# Altium footprint library PCB - CAPACITOR - ELECTROLYTIC - CAPAE660X610N.PCBLIB: 1 footprints
Each footprint in its own frame and in the unit in brackets; x right, y up, seen from the top. Pads: shape width x height; smd on the part's side, far side on the other; paste and mask are expansions set on the pad; w line width, h text height; cw(c..) or ccw(c..) is an arc to the next point about the centre after c.
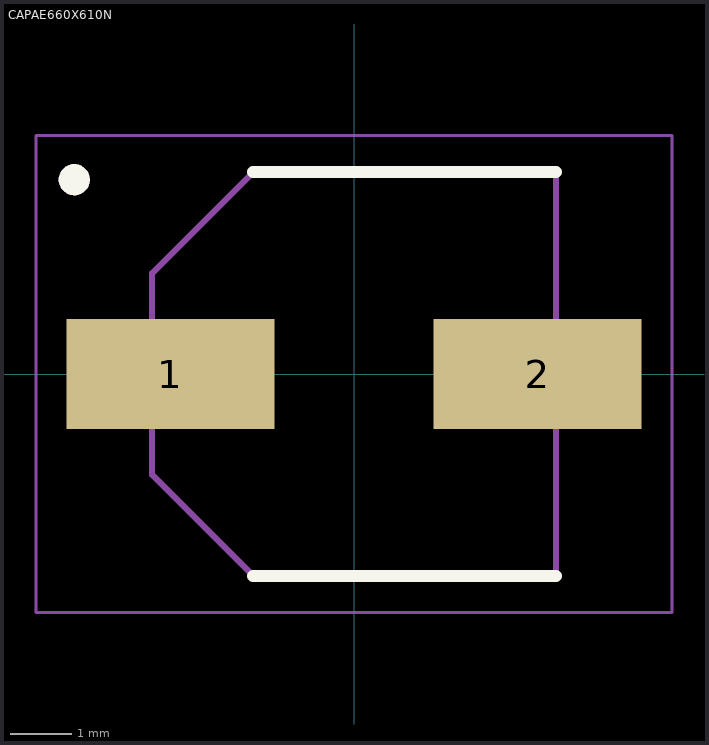
[diagram p0: the footprint, top view; thin cyan lines are the x and y axes]

## CAPAE660X610N [mm]
pads (2):
  rect 3.4x1.8 smd: 1(-3,0) 2(3,0)
Top Overlay:
  circle w0.254: c-4.572,3.175 r0.127
  lines w0.2: -1.651,3.302 3.3,3.3 ; -1.65,-3.3 3.3,-3.3
Top Assembly:
  lines w0.1: -3.3,-1.65 -3.3,1.65 -1.65,3.3 3.3,3.3 3.3,-3.3 -1.65,-3.3 -3.3,-1.65
Top Courtyard:
  lines w0.05: -5.2,-3.9 -5.2,3.9 5.2,3.9 5.2,-3.9 -5.2,-3.9
Top Designator:
  circle w0.254: c-4.572,3.175 r0.127
  text ".Designator" at -5.207,5.461 h1
Top Value (Mech13):
  text ".Comment" at -5.207,4.445 h1
3D body "EEEFK1C101P.stp": height 6.1, standoff 0, extent -3.9,-3.4 3.9,3.4